# Altium footprint library SS14-SMA.PcbLib: 1 footprints
Each footprint in its own frame and in the unit in brackets; x right, y up, seen from the top. Pads: shape width x height; smd on the part's side, far side on the other; paste and mask are expansions set on the pad; w line width, h text height; cw(c..) or ccw(c..) is an arc to the next point about the centre after c.
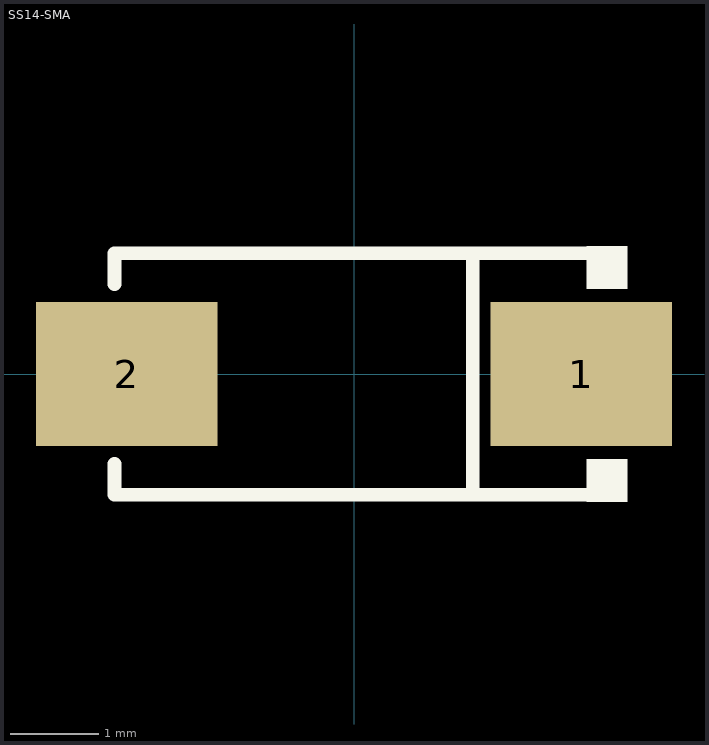
[diagram p0: the footprint, top view; thin cyan lines are the x and y axes]

## SS14-SMA [mil]
pads (2):
  rect 80.57x63.78 smd paste+0 mask+2: 1(101,0) 2(-101,0)
Top Overlay:
  region: 103.34,56.69 103.34,37.89 121.34,37.89 121.34,56.69
  region: 103.34,-56.69 103.34,-37.89 121.34,-37.89 121.34,-56.69
  lines w6: -106.35,-39.89 -106.35,-53.69 106.34,-53.69 ; -106.35,39.89 -106.35,53.69 106.34,53.69 ; 52.71,-53.69 52.71,53.69
Mechanical 1:
  region: -84.34,25.34 -84.34,-25.34 -76.74,-25.34 -76.74,25.34
  region: -95.74,3.8 -95.74,-3.8 -65.33,-3.8 -65.33,3.8
  region: 95.74,3.8 95.74,-3.8 65.33,-3.8 65.33,3.8